# Altium schematic symbol library Motor.Schlib: 1 symbol
Pins are listed as number, name and electrical type; pins without a type are passive.

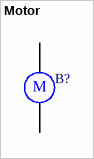
[diagram p0: symbol Motor]

## Motor
designator B?
Motor, General Kind
pins: 1, 2
text: M